# Altium footprint library LTC4050.PcbLib: 1 footprints
Each footprint in its own frame and in the unit in brackets; x right, y up, seen from the top. Pads: shape width x height; smd on the part's side, far side on the other; paste and mask are expansions set on the pad; w line width, h text height; cw(c..) or ccw(c..) is an arc to the next point about the centre after c.
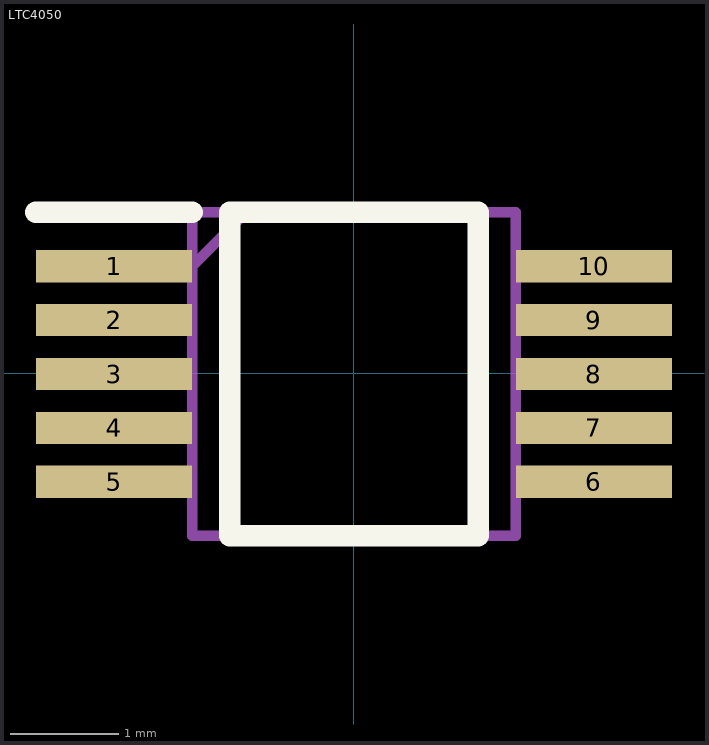
[diagram p0: the footprint, top view; thin cyan lines are the x and y axes]

## LTC4050 [mm]
pads (10):
  rect 1.45x0.3 smd: 1(-2.224,0.991) 2(-2.224,0.491) 3(-2.224,-0.009) 4(-2.224,-0.509) 5(-2.224,-1.009) 6(2.226,-1.009) 7(2.226,-0.509) 8(2.226,-0.009) 9(2.226,0.491) 10(2.226,0.991)
Top Overlay:
  lines w0.2: -2.949,1.491 -1.499,1.491 ; -1.149,-1.509 1.151,-1.509 1.151,1.491 -1.149,1.491 -1.149,-1.509
Mechanical 13:
  lines w0.1: -1.499,0.991 -0.999,1.491 ; -1.499,-1.509 1.501,-1.509 1.501,1.491 -1.499,1.491 -1.499,-1.509
3D body "MSOP-10.STEP": height 1.05, standoff 0, extent -2.514,-1.5 2.514,1.5